# EAGLE library part AT28C256-15SU (library SamacSys_Parts)
EEPROM Parallel 256K-bit 32K x 8 5V 28-Pin SOIC Tube Source: Datasheet <https://componentsearchengine.com/Datasheets/2/AT28C256-15SU.pdf>
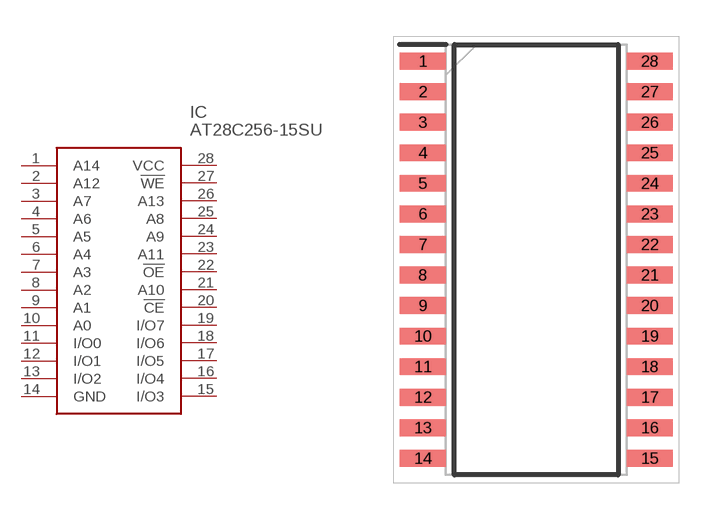
[diagram p199: symbol with the pads of SOIC127P1032X265-28N; footprint SOIC127P1032X265-28N]

Designator prefix IC

## AT28C256-15SU (DESCRIPTION: EEPROM Parallel 256K-bit 32K x 8 5V 28-Pin SOIC Tube; HEIGHT: 2.65mm; MANUFACTURER_NAME: Microchip; MANUFACTURER_PART_NUMBER: AT28C256-15SU; MOUSER_PART_NUMBER: 556-AT28C25615SU; MOUSER_PRICE-STOCK: https://www.mouser.co.uk/ProductDetail/Microchip-Technology-Atmel/AT28C256-15SU?qs=MAR%2F2X5XOp7W6WUPOcncFQ%3D%3D)  [SOIC127P1032X265-28N]
1  A14
2  A12
3  A7
4  A6
5  A5
6  A4
7  A3
8  A2
9  A1
10  A0
11  I/O0
12  I/O1
13  I/O2
14  GND
15  I/O3
16  I/O4
17  I/O5
18  I/O6
19  I/O7
20  !CE
21  A10
22  !OE
23  A11
24  A9
25  A8
26  A13
27  !WE
28  VCC

## Footprint SOIC127P1032X265-28N (pad centres in mm)
28S SOIC
smd 1.925 x 0.7: 1 -4.712,8.255; 2 -4.712,6.985; 3 -4.712,5.715; 4 -4.712,4.445; 5 -4.712,3.175; 6 -4.712,1.905; 7 -4.712,0.635; 8 -4.712,-0.635; 9 -4.712,-1.905; 10 -4.712,-3.175; 11 -4.712,-4.445; 12 -4.712,-5.715; 13 -4.712,-6.985; 14 -4.712,-8.255; 15 4.712,-8.255; 16 4.712,-6.985; 17 4.712,-5.715; 18 4.712,-4.445; 19 4.712,-3.175; 20 4.712,-1.905; 21 4.712,-0.635; 22 4.712,0.635; 23 4.712,1.905; 24 4.712,3.175; 25 4.712,4.445; 26 4.712,5.715; 27 4.712,6.985; 28 4.712,8.255